# Altium integrated library 24LC32A-I_MS.IntLib: 1 symbol
Pins are listed as number, name and electrical type; pins without a type are passive.

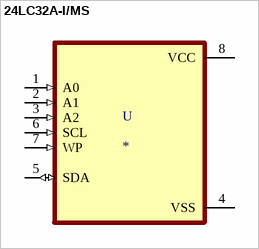
[diagram p0: symbol 24LC32A-I/MS]

## 24LC32A-I/MS
designator U
EEPROM Memory IC 32Kb _4K x 8_ IÂ²C 400kHz 900ns 8-MSOP; MP: 24LC32A-I/MS; MF: Microchip; Package: MSOP-8 Microchip; Price: None; Availability: Unavailable; SnapEDA_Link: https://www.snapeda.com/parts/24LC32A-I/MS/Microchip/view-part/138508/?ref=snap; Value: *
footprint SOP65P490X110-8N
pins: 1 A0 (in), 2 A1 (in), 3 A2 (in), 4 VSS (power), 5 SDA (io), 6 SCL (in), 7 WP (in), 8 VCC (power)